# Altium integrated library BoilermakeBadge_ComponentsLibrary.IntLib: 18 symbols
Pins are listed as number, name and electrical type; pins without a type are passive.

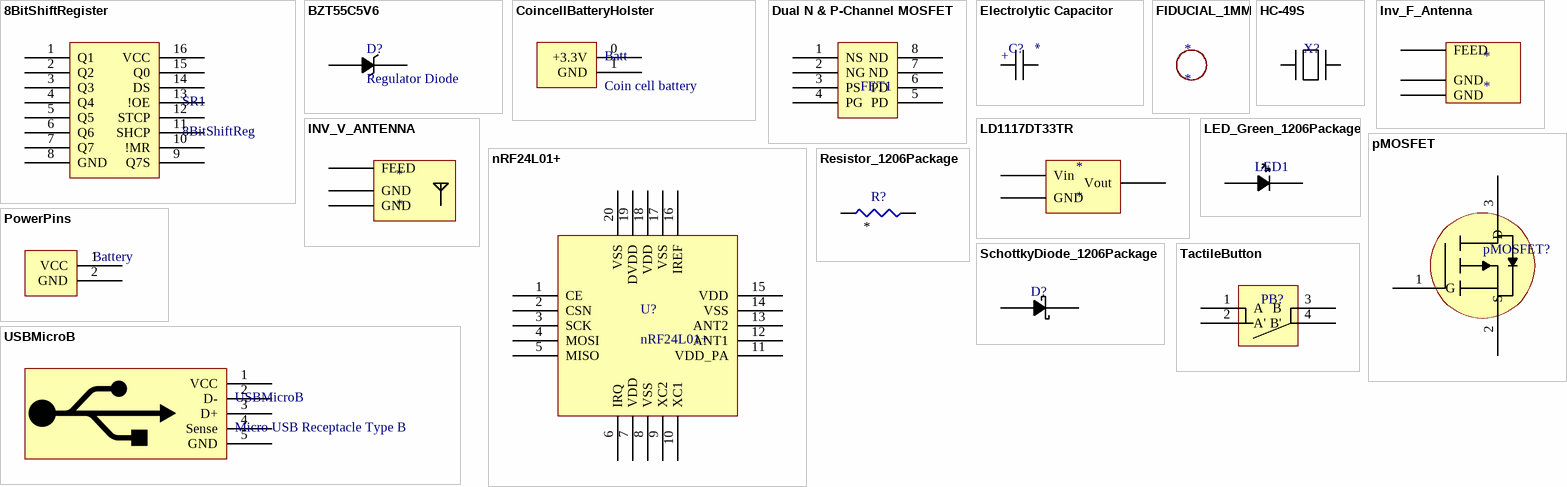
[diagram p0: symbols 8BitShiftRegister to USBMicroB]

## 8BitShiftRegister
designator SR1, comment 8BitShiftReg
footprint 16-SOIC
pins: 1 Q1 (power), 2 Q2 (power), 3 Q3 (power), 4 Q4 (power), 5 Q5 (power), 6 Q6 (power), 7 Q7 (power), 8 GND (power), 9 Q7S (power), 10 !MR (power), 11 SHCP (power), 12 STCP (power), 13 !OE (power), 14 DS (power), 15 Q0 (power), 16 VCC (power)

## BZT55C5V6
designator D?, comment Regulator Diode
This is jank
footprint SOD-80
pins: 1 (power), 2 (power)

## CoincellBatteryHolster
designator Batt, comment Coin cell battery
footprint CoincellFootprint
pins: 0 +3.3V (power), 1 GND (power)

## Dual N & P-Channel MOSFET
designator FET1, comment DualNP-ChFET  (value not drawn)
footprint 8-SOIC
pins: 1 NS, 2 NG, 3 PS, 4 PG, 5 PD, 6 PD, 7 ND, 8 ND

## Electrolytic Capacitor
designator C?
asdf; Value: *
footprint sheityCapPackage (This is jank)
pins: 1, 2
text: +

## FIDUCIAL_1MM
designator *
footprint FID_MARKER

## HC-49S
designator X?  (value not drawn)
footprint HC-49S
pins: 1, 2

## Inv_F_Antenna
designator *
pins: 9 FEED, 10 GND, 11 GND

## INV_V_ANTENNA
designator *
footprint INV_F_PCB_ANTENNA
pins: 1 GND, 2 GND, 3 FEED

## LD1117DT33TR
designator *
footprint DPAK
pins: 1 GND, 2 Vout, 3 Vin

## LED_Green_1206Package
designator LED1  (value not drawn)
Green LED
footprint 1206Package_PCB
pins: 1 (power), 2 (power)

## nRF24L01+
designator U?
2.4GHz RF Transceiver
footprint 20-VFQFN (The package)
pins: 1 CE, 2 CSN, 3 SCK, 4 MOSI, 5 MISO, 6 IRQ, 7 VDD, 8 VSS, 9 XC2, 10 XC1, 11 VDD_PA, 12 ANT1, 13 ANT2, 14 VSS, 15 VDD, 16 IREF, 17 VSS, 18 VDD, 19 DVDD, 20 VSS

## pMOSFET
designator pMOSFET?  (value not drawn)
footprint pMOSFET_PCB
pins: 1 G (power), 2 S (power), 3 D (power)

## PowerPins
designator Battery  (value not drawn)
footprint PowerPins_PCB
pins: 1 VCC (power), 2 GND (power)

## Resistor_1206Package
designator R?
Resistor 1206; Value: *
footprint 1206Package_PCB
pins: 1 (power), 2 (power)

## SchottkyDiode_1206Package
designator D?  (value not drawn)
footprint 1206Package_PCB
pins: 1 (power), 2 (power)

## TactileButton
designator PB?, comment PushButton  (value not drawn)
Normally open push button.
footprint TactileSwitchPCB
pins: 1 A (power), 2 A' (power), 3 B (power), 4 B' (power)

## USBMicroB
designator USBMicroB, comment Micro USB Receptacle Type B
footprint USBMicroB_PCB
pins: 1 VCC (power), 2 D- (power), 3 D+ (power), 4 Sense (power), 5 GND (power)